# EAGLE library part DEBUG-XILINX (library Cynara-Connectors)
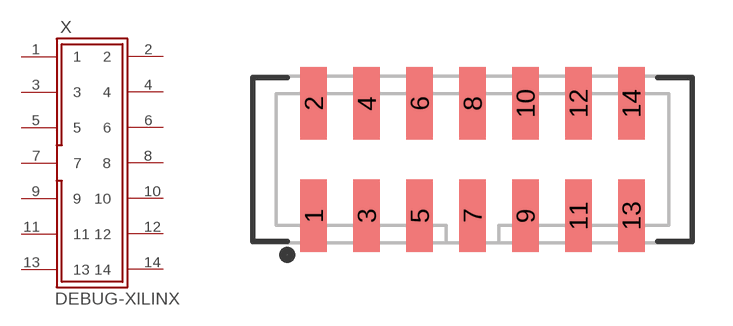
[diagram p1: symbol with the pads of 87832-1420; footprint 87832-1420]

Designator prefix X

## DEBUG-XILINX (MANUFACTURER: MOLEX; MANUFACTURERPARTNO: 87832-1420; VALUE: debug xilinx)  [87832-1420]
1  1  pas
2  2  pas
3  3  pas
4  4  pas
5  5  pas
6  6  pas
7  7  pas
8  8  pas
9  9  pas
10  10  pas
11  11  pas
12  12  pas
13  13  pas
14  14  pas

## Footprint 87832-1420 (pad centres in mm)
smd 1 x 2.75: 1 -6,-2.125; 2 -6,2.125; 3 -4,-2.125; 4 -4,2.125; 5 -2,-2.125; 6 -2,2.125; 7 0,-2.125; 8 0,2.125; 9 2,-2.125; 10 2,2.125; 11 4,-2.125; 12 4,2.125; 13 6,-2.125; 14 6,2.125